# EAGLE library part BLUEPILL (library Komputronika)
BluePill STM32F108T6 Dev Board Source: http://www.stm32duino.com
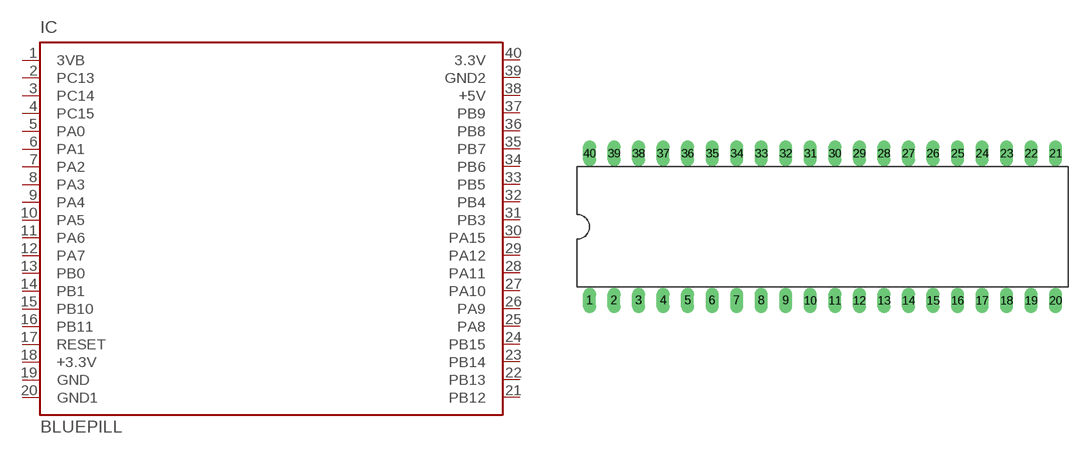
[diagram p11: symbol with the pads of DIL40; footprint DIL40]

Designator prefix IC

## BLUEPILL455 (0: x; MF: BluePill; MPN: BluePill; X: 0), BLUEPILL550 (0: x; BLUEP: 1; MF: BluePill; MPN: BluePill; X: 0)  [DIL40]
1  3VB  in
2  PC13
3  PC14
4  PC15
5  PA0
6  PA1
7  PA2
8  PA3
9  PA4
10  PA5
11  PA6  pwr
12  PA7  pwr
13  PB0  in
14  PB1  out
15  PB10
16  PB11
17  RESET
18  +3.3V
19  GND
20  GND1
21  PB12
22  PB13
23  PB14
24  PB15
25  PA8
26  PA9
27  PA10
28  PA11
29  PA12
30  PA15
31  PB3  pwr
32  PB4  pwr
33  PB5
34  PB6
35  PB7
36  PB8
37  PB9
38  +5V
39  GND2
40  3.3V

## Footprint DIL40 (pad centres in mm)
Dual In Line package type P
drill 0.813 long: 1 -24.13,-7.62; 2 -21.59,-7.62; 3 -19.05,-7.62; 4 -16.51,-7.62; 5 -13.97,-7.62; 6 -11.43,-7.62; 7 -8.89,-7.62; 8 -6.35,-7.62; 9 -3.81,-7.62; 10 -1.27,-7.62; 11 1.27,-7.62; 12 3.81,-7.62; 13 6.35,-7.62; 14 8.89,-7.62; 15 11.43,-7.62; 16 13.97,-7.62; 17 16.51,-7.62; 18 19.05,-7.62; 19 21.59,-7.62; 20 24.13,-7.62; 21 24.13,7.62; 22 21.59,7.62; 23 19.05,7.62; 24 16.51,7.62; 25 13.97,7.62; 26 11.43,7.62; 27 8.89,7.62; 28 6.35,7.62; 29 3.81,7.62; 30 1.27,7.62; 31 -1.27,7.62; 32 -3.81,7.62; 33 -6.35,7.62; 34 -8.89,7.62; 35 -11.43,7.62; 36 -13.97,7.62; 37 -16.51,7.62; 38 -19.05,7.62; 39 -21.59,7.62; 40 -24.13,7.62